# Altium footprint library 0522071233.PcbLib: 1 footprints
Each footprint in its own frame and in the unit in brackets; x right, y up, seen from the top. Pads: shape width x height; smd on the part's side, far side on the other; paste and mask are expansions set on the pad; w line width, h text height; cw(c..) or ccw(c..) is an arc to the next point about the centre after c.
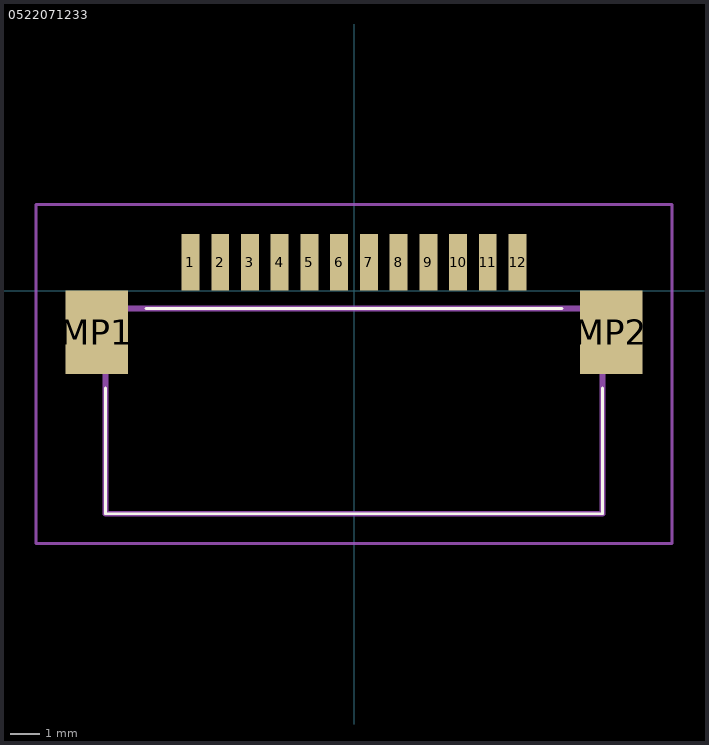
[diagram p0: the footprint, top view; thin cyan lines are the x and y axes]

## 0522071233 [mm]
pads (14):
  rect 0.6x1.9 smd: 1(-5.5,0.95) 2(-4.5,0.95) 3(-3.5,0.95) 4(-2.5,0.95) 5(-1.5,0.95) 6(-0.5,0.95) 7(0.5,0.95) 8(1.5,0.95) 9(2.5,0.95) 10(3.5,0.95) 11(4.5,0.95) 12(5.5,0.95)
  rect 2.1x2.8 smd: MP1(-8.65,-1.4) MP2(8.65,-1.4)
Top Overlay:
  lines w0.1: -8.35,-3.275 -8.35,-7.5 8.35,-7.5 8.35,-3.275 ; -7,-0.6 7,-0.6
Mechanical 15:
  lines w0.2: -8.35,-7.5 8.35,-7.5 8.35,-0.6 -8.35,-0.6 -8.35,-7.5
Mechanical 20:
  lines w0.1: -10.7,-8.5 10.7,-8.5 10.7,2.9 -10.7,2.9 -10.7,-8.5